# EAGLE library part TLW-105-06-G-D (library SAMTEC-Txx_By_element14_Batch_1)
LOW PROFILE HEADER, 10 way
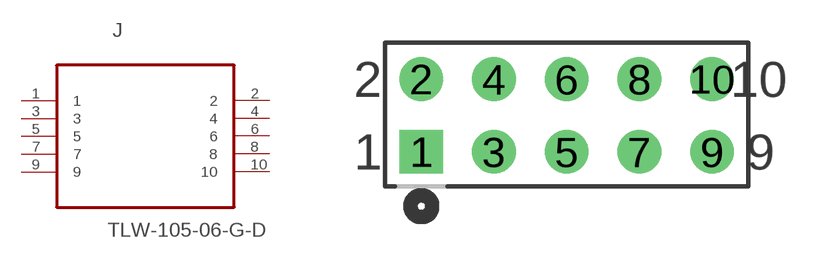
[diagram p138: symbol with the pads of SAMTEC_TLW-105-06-G-D; footprint SAMTEC_TLW-105-06-G-D]

Designator prefix J

## TLW-105-06-G-D (MPN: TLW-105-06-G-D; OC_FARNELL: -; OC_NEWARK: 12P0400; PACKAGE: LOW PROFILE HEADER; SUPPLIER: SAMTEC)  [SAMTEC_TLW-105-06-G-D]
1  1  pas
2  2  pas
3  3  pas
4  4  pas
5  5  pas
6  6  pas
7  7  pas
8  8  pas
9  9  pas
10  10  pas

## Footprint SAMTEC_TLW-105-06-G-D (pad centres in mm)
drill 1.016 square: 1 -10.16,-2.54
drill 1.016: 2 -10.16,0; 3 -7.62,-2.54; 4 -7.62,0; 5 -5.08,-2.54; 6 -5.08,0; 7 -2.54,-2.54; 8 -2.54,0; 9 0,-2.54; 10 0,0